# EAGLE library part VL53L4CD (library DISTANCE)
STMicroelectronics VL53L4D - IR Laser Distance Sensor
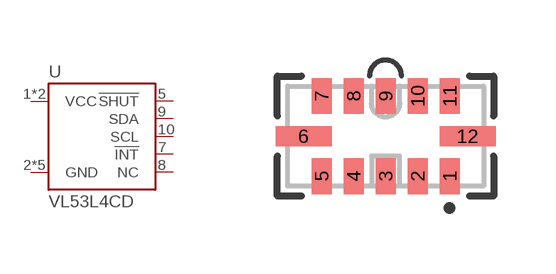
[diagram p0: symbol with the pads of VL53L4CD; footprint VL53L4CD]

Designator prefix U

## VL53L4CD (PROD_ID: IC-16332)  [VL53L4CD]
1  VCC  pwr
2  GND  pwr
3  GND  pwr
4  GND  pwr
5  !SHUT  in
6  GND  pwr
7  !INT  out
8  NC  nc
9  SDA
10  SCL
11  VCC  pwr
12  GND  pwr

## Footprint VL53L4CD (pad centres in mm)
LGA-12 - 12 pin LGA package for the V53L1x Specifications: Pin count: 12 Pin pitch: .8 mm Area: 4.8 mm x 2.4 mm Datasheet referenced for footprint <https://www.mouser.com/datasheet/2/389/en.DM00452094-1315090.pdf>
smd 0.5 x 0.9: 1 1.6,-1; 2 0.8,-1; 3 0,-1; 4 -0.8,-1; 5 -1.6,-1; 7 -1.6,1; 8 -0.8,1; 9 0,1; 10 0.8,1; 11 1.6,1
smd 1.4 x 0.5: 6 -2.05,0; 12 2.05,0